# Altium footprint library SparkFun-Connectors.PCBLIB: 309 footprints (part 16 of 20)
Each footprint in its own frame and in the unit in brackets; x right, y up, seen from the top. Pads: shape width x height; smd on the part's side, far side on the other; paste and mask are expansions set on the pad; w line width, h text height; cw(c..) or ccw(c..) is an arc to the next point about the centre after c.
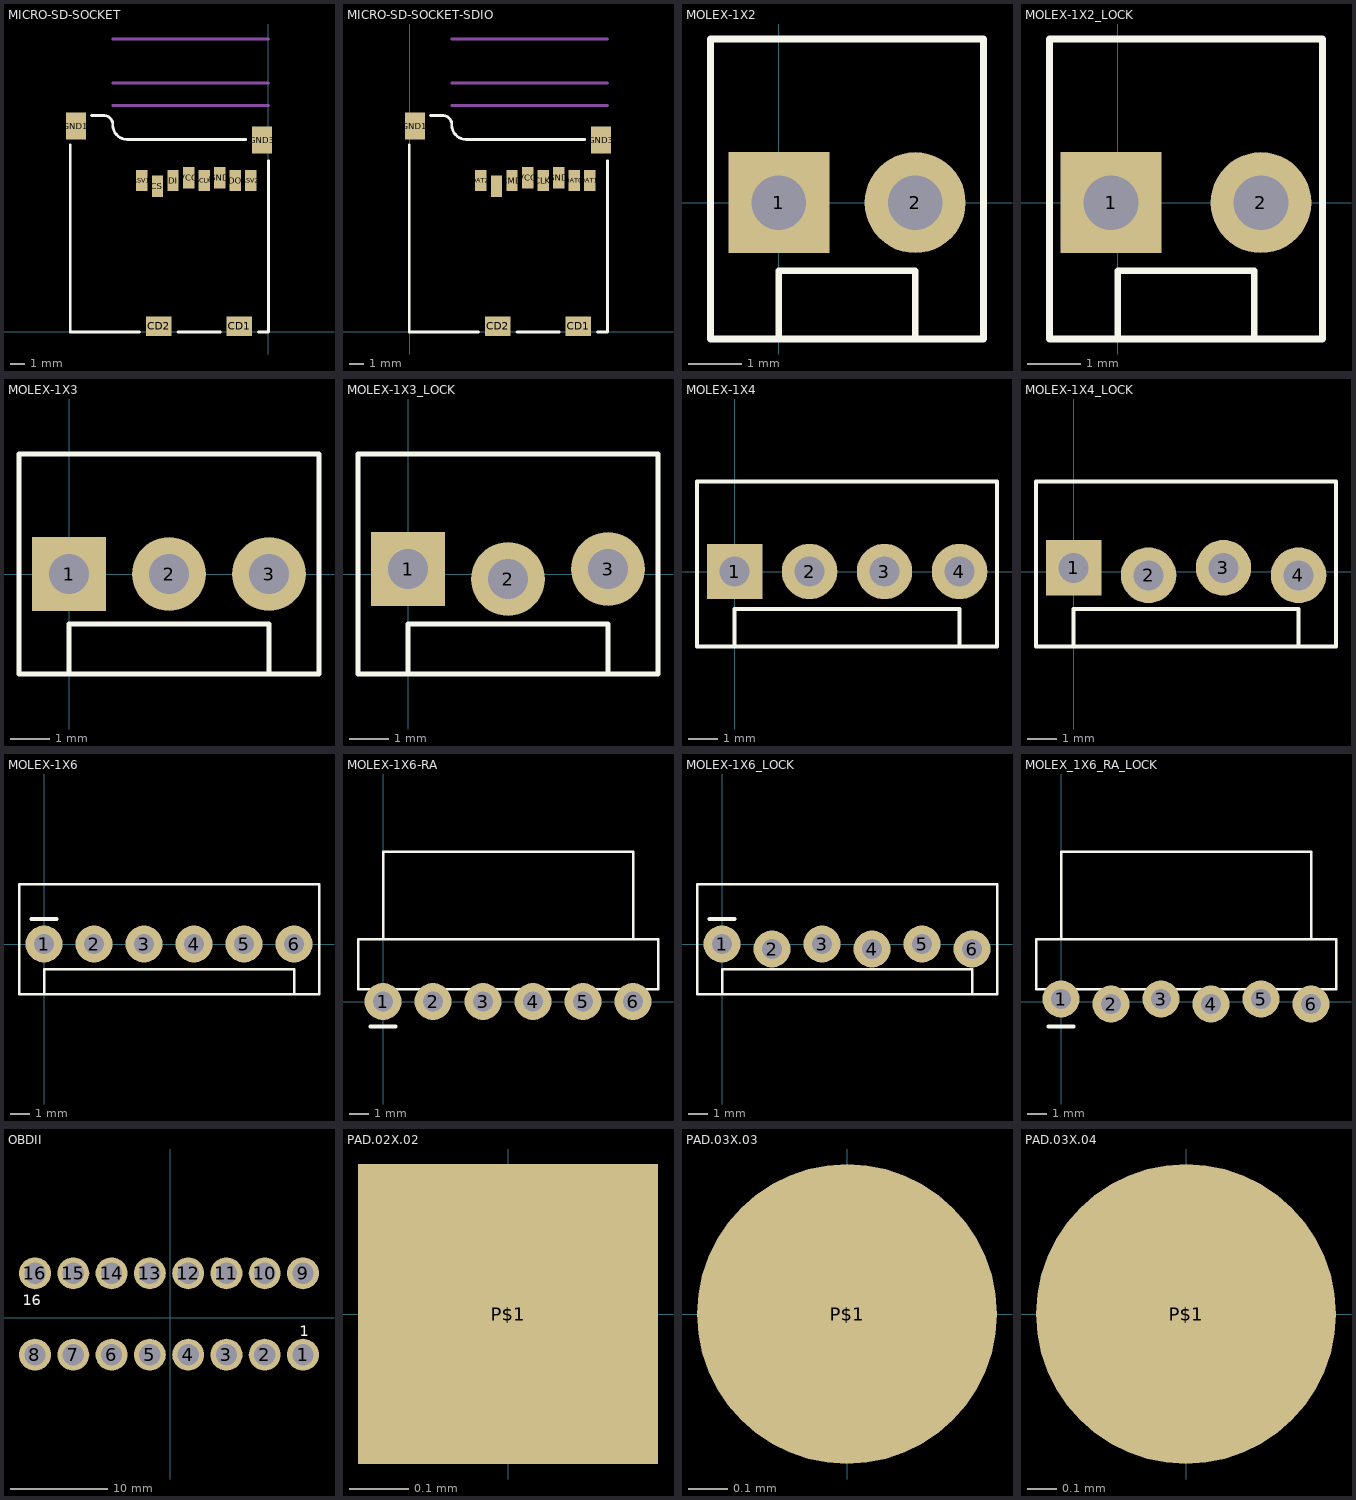
[diagram p15: the footprints below, top view; thin cyan lines are the x and y axes]

## MICRO-SD-SOCKET [mil]
pads (12):
  rect 70.87x55.12 smd: CD1(-80.71,15.75) CD2(-305.12,15.75)
  rect 31.5x59.06 smd: CS(-308.66,405.51) DI(-265.35,421.26) DO(-92.13,421.26) GND(-135.43,429.13) RSV1(-351.97,421.26) RSV2(-48.82,421.26) SCLK(-178.74,421.26) VCC(-222.05,429.13)
  rect 55.12x74.8 smd: GND1(-535.43,572.83) GND3(-17.72,533.46)
Top Overlay:
  lines w8: -551.18,519.69 -551.18,0 -358.27,0 ; -492.13,602.36 -460.63,602.36 cw(c-458.66,576.77) -433.07,574.8 ccw(c-392.72,575.78) -393.7,535.43 -62.99,535.43 ; -251.97,0 -133.86,0 ; -27.56,0 0,0 0,476.38
Mechanical 16:
  lines w8: -433.07,629.92 0,629.92 ; -433.07,692.91 0,692.91 ; -433.07,814.96 0,814.96
  text "Pressed" at 25,625 h42.5
  text "Locked" at 25,700 h42.5
  text "Unlocked" at 25,825 h42.5

## MICRO-SD-SOCKET-SDIO [mil]
pads (12):
  rect 70.87x55.12 smd: CD1(469.29,15.75) CD2(244.88,15.75)
  rect 31.5x59.06 smd: CD/DAT3(241.34,405.51) CLK(371.26,421.26) CMD(284.65,421.26) DAT0(457.87,421.26) DAT1(501.18,421.26) DAT2(198.03,421.26) GND(414.57,429.13) VCC(327.95,429.13)
  rect 55.12x74.8 smd: GND1(14.57,572.83) GND3(532.28,533.46)
Top Overlay:
  lines w8: -1.18,519.69 -1.18,0 191.73,0 ; 57.87,602.36 89.37,602.36 cw(c91.34,576.77) 116.93,574.8 ccw(c157.28,575.78) 156.3,535.43 487.01,535.43 ; 298.03,0 416.14,0 ; 522.44,0 550,0 550,476.38
Mechanical 16:
  lines w8: 116.93,629.92 550,629.92 ; 116.93,692.91 550,692.91 ; 116.93,814.96 550,814.96
  text "Pressed" at 575,625 h42.5
  text "Locked" at 575,700 h42.5
  text "Unlocked" at 575,825 h42.5

## MOLEX-1X2 [mil]
pads (2):
  rect 74x74 hole 40: 1(0,0)
  round 74 hole 40: 2(100,0)
Top Overlay:
  lines w5: 0,-100 100,-100 ; 0,-100 -50,-100 -50,120 150,120 150,-100 100,-100 ; 0,-100 0,-50 100,-50 100,-100

## MOLEX-1X2_LOCK [mil]
pads (2):
  rect 74x74 hole 40: 1(-5,0)
  round 74 hole 40: 2(105,0)
Top Overlay:
  lines w5: 0,-100 100,-100 ; 0,-100 -50,-100 -50,120 150,120 150,-100 100,-100 ; 0,-100 0,-50 100,-50 100,-100
Mechanical 16:
  rectangle: -11.5,-11.5 11.5,11.5
  rectangle: 88.5,-11.5 111.5,11.5

## MOLEX-1X3 [mil]
pads (3):
  rect 74x74 hole 40: 1(0,0)
  round 74 hole 40: 2(100,0) 3(200,0)
Top Overlay:
  lines w5: 0,-100 200,-100 ; 0,-100 -50,-100 -50,120 250,120 250,-100 200,-100 ; 0,-100 0,-50 200,-50 200,-100

## MOLEX-1X3_LOCK [mil]
pads (3):
  rect 74x74 hole 40: 1(0,5)
  round 74 hole 40: 2(100,-5) 3(200,5)
Top Overlay:
  lines w5: 0,-100 200,-100 ; 0,-100 -50,-100 -50,120 250,120 250,-100 200,-100 ; 0,-100 0,-50 200,-50 200,-100
Mechanical 16:
  rectangle: -11.5,-11.5 11.5,11.5
  rectangle: 88.5,-11.5 111.5,11.5
  rectangle: 188.5,-11.5 211.5,11.5

## MOLEX-1X4 [mil]
pads (4):
  rect 74x74 hole 40: 1(0,0)
  round 74 hole 40: 2(100,0) 3(200,0) 4(300,0)
Top Overlay:
  lines w5: 0,-100 300,-100 ; 0,-100 -50,-100 -50,120 350,120 350,-100 300,-100 ; 0,-100 0,-50 300,-50 300,-100

## MOLEX-1X4_LOCK [mil]
pads (4):
  rect 74x74 hole 40: 1(0,5)
  round 74 hole 40: 2(100,-5) 3(200,5) 4(300,-5)
Top Overlay:
  lines w5: 0,-100 300,-100 ; 0,-100 -50,-100 -50,120 350,120 350,-100 300,-100 ; 0,-100 0,-50 300,-50 300,-100

## MOLEX-1X6 [mil]
pads (6):
  round 74 hole 40: 1(0,0) 2(100,0) 3(200,0) 4(300,0) 5(400,0) 6(500,0)
Top Overlay:
  lines w5: 0,-100 500,-100 ; 0,-100 -50,-100 -50,120 550,120 550,-100 500,-100 ; 0,-100 0,-50 500,-50 500,-100
  lines w8: -25,50 25,50
Bottom Overlay:
  lines w8: -25,50 25,50

## MOLEX-1X6-RA [mil]
pads (6):
  round 74 hole 40: 1(0,0) 2(100,0) 3(200,0) 4(300,0) 5(400,0) 6(500,0)
Top Overlay:
  lines w5: 0,125 500,125 ; 0,125 -50,125 -50,25 550,25 550,125 500,125 ; 0,125 0,300 500,300 500,125
  lines w8: -25,-50 25,-50
Bottom Overlay:
  lines w8: -25,-50 25,-50

## MOLEX-1X6_LOCK [mil]
pads (6):
  round 74 hole 40: 1(0,0) 2(100,-10) 3(200,0) 4(300,-10) 5(400,0) 6(500,-10)
Top Overlay:
  lines w5: 0,-100 500,-100 ; 0,-100 -50,-100 -50,120 550,120 550,-100 500,-100 ; 0,-100 0,-50 500,-50 500,-100
  lines w8: -25,50 25,50
Bottom Overlay:
  lines w8: -25,50 25,50
Mechanical 16:
  rectangle: -11.5,-16.5 11.5,6.5
  rectangle: 88.5,-16.5 111.5,6.5
  rectangle: 188.5,-16.5 211.5,6.5
  rectangle: 288.5,-16.5 311.5,6.5
  rectangle: 388.5,-16.5 411.5,6.5
  rectangle: 488.5,-16.5 511.5,6.5

## MOLEX_1X6_RA_LOCK [mil]
pads (6):
  round 74 hole 40: 1(0,5) 2(100,-5) 3(200,5) 4(300,-5) 5(400,5) 6(500,-5)
Top Overlay:
  lines w5: 0,125 500,125 ; 0,125 -50,125 -50,25 550,25 550,125 500,125 ; 0,125 0,300 500,300 500,125
  lines w8: -25,-50 25,-50
Bottom Overlay:
  lines w8: -25,-50 25,-50

## OBDII [mil]
pads (16):
  round 129.91 hole 86.61: 1(538.58,-150) 2(383.07,-150) 3(227.56,-150) 4(72.05,-150) 5(-83.46,-150) 6(-238.98,-150) 7(-394.49,-150) 8(-550,-150) 9(538.58,180.71) 10(383.07,180.71) 11(227.56,180.71) 12(72.05,180.71) 13(-83.46,180.71) 14(-238.98,180.71) 15(-394.49,180.71) 16(-550,180.71)
Top Overlay:
  text "1" at 525,-75 h42.5
  text "16" at -600,50 h42.5
Bottom Overlay:
  text "16" at -500,50 h42.5
  text "1" at 575,-75 h42.5

## PAD.02X.02 [mil]
pads (1):
  rect 20x20 smd: P$1(0,0)

## PAD.03X.03 [mil]
pads (1):
  rrect100% 30x30 smd: P$1(0,0)

## PAD.03X.04 [mil]
pads (1):
  rrect100% 40x40 smd: P$1(0,0)